# EAGLE library part 428527420917 (library Wurth_Elektronik_Electromechanic_Switch_rev16b)
10x10 mm washable THT shaft type,16 position <http://katalog.we-online.de/media/images/v2/Family_WS-ROTV_10x10mm_washable_THT_Rotary_Switch_4285274209xx.jpg> Details see: http://katalog.we-online.de/en/em/ROTV_10X10_WASHABLE_THT_SHAFT_TYPE 2015 (C) Würth Elektronik
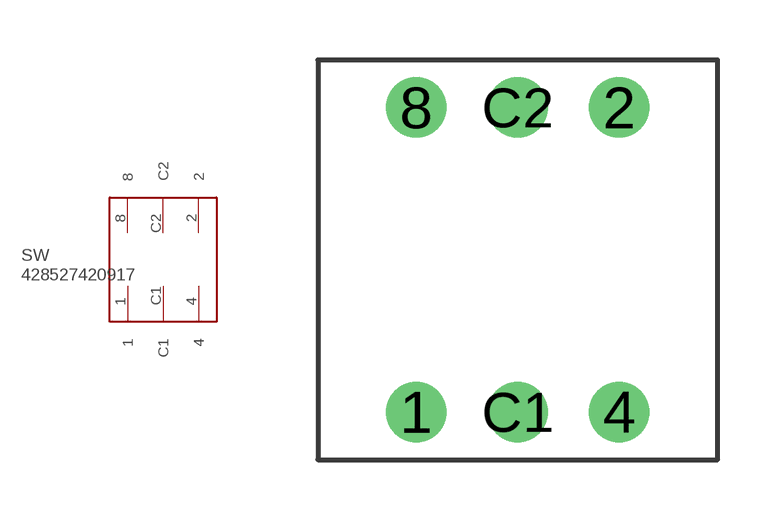
[diagram p3: symbol with the pads of 428527420917; footprint 428527420917]

Designator prefix SW

## 428527420917  [428527420917]
1  1
2  2
4  4
8  8
C1  C1
C2  C2

## Footprint 428527420917 (pad centres in mm)
WS-RST-10x10 mm washable THT Rotary Switch,6 pins,16 positions
drill 1: 1 -2.54,-3.81; 2 2.54,3.81; 4 2.54,-3.81; 8 -2.54,3.81; C1 0,-3.81; C2 0,3.81